# Altium footprint library CL_VISHAY_IHLP-2525CZ-01.PcbLib: 1 footprints
Each footprint in its own frame and in the unit in brackets; x right, y up, seen from the top. Pads: shape width x height; smd on the part's side, far side on the other; paste and mask are expansions set on the pad; w line width, h text height; cw(c..) or ccw(c..) is an arc to the next point about the centre after c.
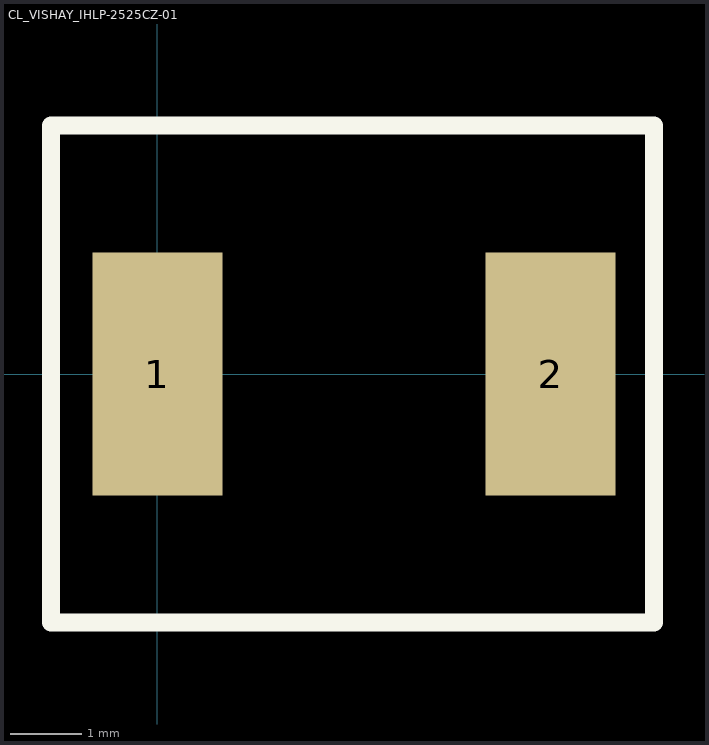
[diagram p0: the footprint, top view; thin cyan lines are the x and y axes]

## CL_VISHAY_IHLP-2525CZ-01 [mm]
pads (2):
  rect 1.83x3.43 smd: 1(0,0) 2(5.54,0)
Top Overlay:
  lines w0.254: -1.5,-3.5 7,-3.5 7,3.5 -1.5,3.5 -1.5,-3.5